# Altium schematic symbol library ECGAquisitionBoard.SchLib: 11 symbols
Pins are listed as number, name and electrical type; pins without a type are passive.

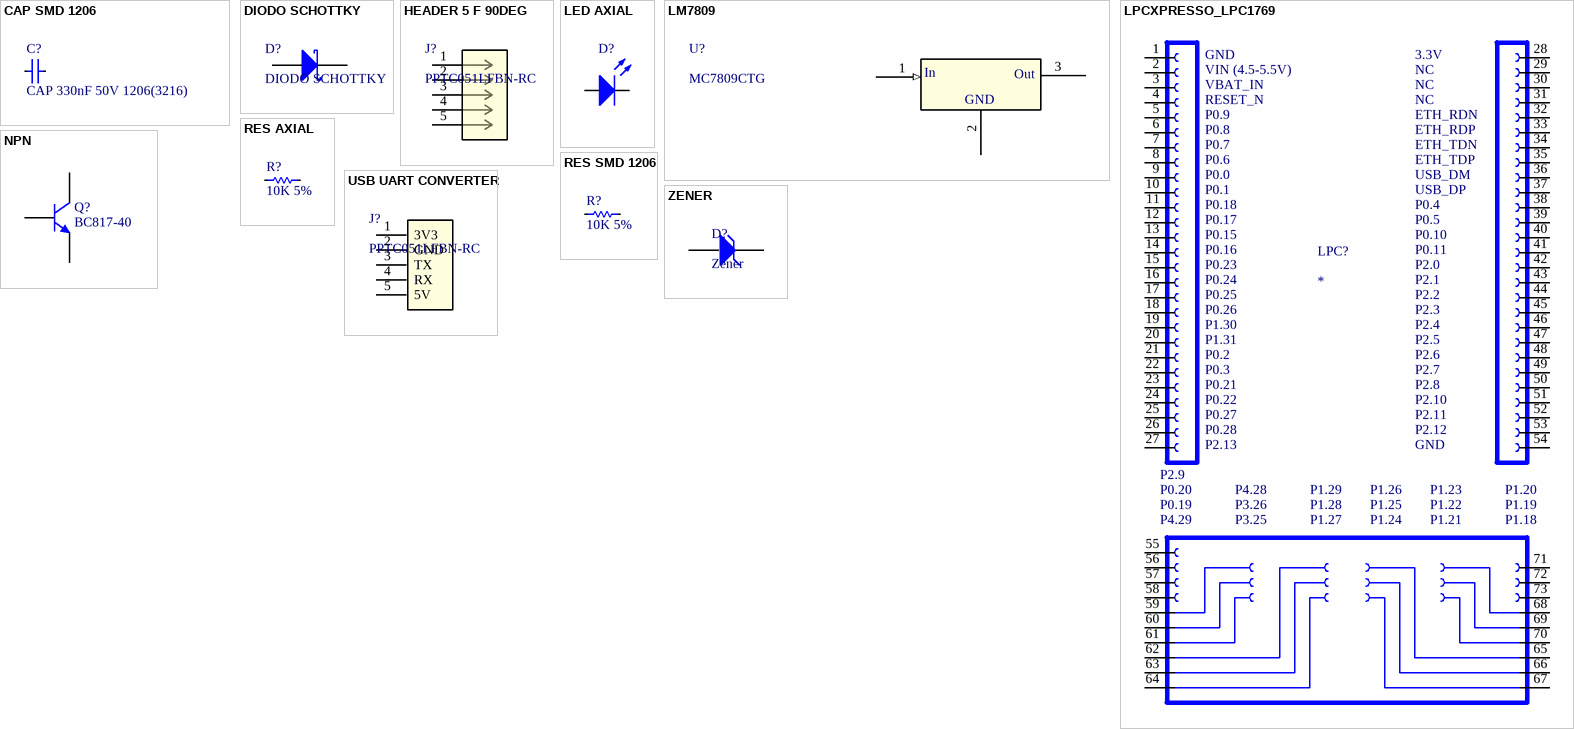
[diagram p0: symbols CAP SMD 1206 to ZENER]

## CAP SMD 1206
designator C?, comment CAP 330nF 50V 1206(3216)
CAP 330nF 50V ±10% 1206 (3216 Metric) Thickness 1.9mm SMD; Tolerance: Â±10%; Case-EIA: 1206; Case-Metric: 3216; Technology: SMT; Value: 330nF; Rated Voltage: 50 V; Max Thickness: 1.9 mm
footprint CAP SMD 1206 (Chip Capacitor, Body 3.2x1.6mm, Height 1.9mm, IPC Low Density)
pins: 1, 2
1 alternate drawing of the same symbol

## DIODO SCHOTTKY
designator D?
Part Number: *; Manufacturer: *; Code Prov1: *; Prov1: *
footprint DO-41
pins: 1 A, 2 K

## HEADER 5 F 90DEG
designator J?, comment PPTC051LFBN-RC
Description; Manufacturer_Name: Sullins; Copyright: Copyright (C) 2025 Ultra Librarian. All rights reserved.; Manufacturer_Part_Number: PPTC051LFBN-RC; RefDes: RefDes; Type: Type
footprint HEADER 5 F 90DEG
pins: 1, 2, 3, 4, 5

## LED AXIAL
designator D?
Typical RED GaAs LED; Published: 8-Jun-2000; LatestRevisionDate: 08-Jul-2005; LatestRevisionNote: Mech Layer 1 removed.; PackageReference: LED-1; Publisher: Altium Limited
footprint LED_AXIAL
pins: A, K

## LM7809
designator U?, comment MC7809CTG
No Description Available; Manufacturer_Name: onsemi; Copyright: Copyright (C) 2025 Ultra Librarian. All rights reserved.; Manufacturer_Part_Number: MC7809CTG; RefDes: RefDes; Type: Type
footprint LM7809
pins: 1 INPUT (in), 2 GROUND (power), 3 OUTPUT (power)
text: In; Out; GND

## LPCXPRESSO_LPC1769
designator LPC?
LPC1768, LPC1769, mbed-Enabled Development LPCXpressoâ„¢ LPC1700 ARMÂ® CortexÂ®-M3 MCU 32-Bit Embedded Evaluation Board; MF: Embedded Artists; MP: LPCXPRESSO LPC1769; SnapEDA_Link: https://www.snapeda.com/parts/LPCXPRESSO%20LPC1769/Embedded%20Artists/view-part/45270/?ref=snap; Value: *; Check_prices: https://www.snapeda.com/parts/LPCXPRESSO%20LPC1769/Embedded%20Artists/view-part/45270/?ref=eda; Package: None; Availability: Unavailable; Price: None
footprint LPCXPRESSO_LPC1769
pins: 1, 2, 3, 4, 5, 6, 7, 8, 9, 10, 11, 12, 13, 14, 15, 16, 17, 18, 19, 20, 21, 22, 23, 24, 25, 26, 27, 28, 29, 30, 31, 32, 33, 34, 35, 36, 37, 38, 39, 40, 41, 42, 43, 44, 45, 46, 47, 48, 49, 50, 51, 52, 53, 54, 55, 56, 57, 58, 59, 60, 61, 62, 63, 64, 65, 66, 67, 68, 69, 70, 71, 72, 73
text: GND; 3.3V; VIN (4.5-5.5V); NC; VBAT_IN; RESET_N; P0.9; ETH_RDN; P0.8; ETH_RDP; P0.7; ETH_TDN; P0.6; ETH_TDP; P0.0; USB_DM; P0.1; USB_DP; P0.18; P0.4; P0.17; P0.5; P0.15; P0.10; P0.16; P0.11; P0.23; P2.0; P0.24; P2.1; P0.25; P2.2; P0.26; P2.3; P1.30; P2.4; P1.31; P2.5; P0.2; P2.6; P0.3; P2.7; P0.21; P2.8; P0.22; P2.10; P0.27; P2.11; P0.28; P2.12; P2.13; P2.9; P0.20; P4.28; P1.29; P1.26; P1.23; P1.20; P0.19; P3.26; P1.28; P1.25; P1.22; P1.19; P4.29; P3.25; P1.27; P1.24; P1.21; P1.18

## NPN
designator Q?, comment BC817-40
NPN General Purpose Amplifier; Published: 8-Jun-2000; LatestRevisionDate: 20-Nov-2009; LatestRevisionNote: IPC-7351 Footprint Added.; DatasheetVersion: 1997; PackageVersion: Sep-1998; PackageReference: SOT-23A; Publisher: Altium Limited; PackageDescription: 3-Pin SOT-23 Package 0.95 mm Pitch, 2.3 mm Lead Span; ComponentLink1Description: Manufacturer Link; ComponentLink1URL: http://www.fairchildsemi.com/; ComponentLink2Description: Discontinuation Notice; ComponentLink2URL: http://www.fairchildsemi.com/obsolete/obs.jsp
footprint TO-92
pins: 1 B, 2 C, 3 E

## RES AXIAL
designator R?, comment 10K 5%
Resistencia; Published: 8-Jun-2000; LatestRevisionDate: 17-Jul-2002; LatestRevisionNote: Re-released for DXP Platform.; Publisher: Altium Limited
footprint AXIAL-0.4 (Axial Device, Thru-Hole; 2 Leads; 0.4 in Pin Spacing)
pins: 1, 2

## RES SMD 1206
designator R?, comment 10K 5%
Resistencia; Published: 8-Jun-2000; LatestRevisionDate: 17-Jul-2002; LatestRevisionNote: Re-released for DXP Platform.; Publisher: Altium Limited
footprint RES SMD 1206 (Footprint not found)
pins: 1, 2

## USB UART CONVERTER
designator J?, comment PPTC051LFBN-RC
Description; Manufacturer_Name: Sullins; Copyright: Copyright (C) 2025 Ultra Librarian. All rights reserved.; Manufacturer_Part_Number: PPTC051LFBN-RC; RefDes: RefDes; Type: Type
pins: 1 3V3, 2 GND, 3 TX, 4 RX, 5 5V

## ZENER
designator D?, comment Zener
Diodo Zener
footprint DO-41
pins: 1 A, 2 K